# EAGLE library part ADG787BRMZ (library impedance)
2:1 Mux/Demux USB 1.1 Switch
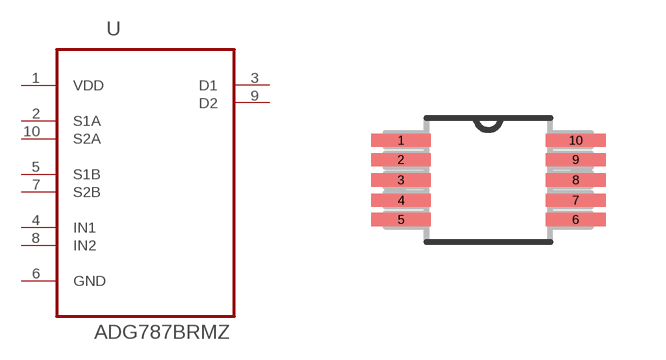
[diagram p3: symbol with the pads of SOP50P490X110-10N; footprint SOP50P490X110-10N]

Designator prefix U

## ADG787BRMZ (MPN: ADG787BRMZ; OC_FARNELL: 1117867; OC_NEWARK: 19M0695; PACKAGE: MSOP-10; SUPPLIER: Analog Devices)  [SOP50P490X110-10N]
1  VDD  pwr
2  S1A
3  D1
4  IN1  in
5  S1B
6  GND  pas
7  S2B
8  IN2  in
9  D2
10  S2A

## Footprint SOP50P490X110-10N (pad centres in mm)
smd 1.499 x 0.33: 1 -2.184,0.991; 2 -2.184,0.508; 3 -2.184,0; 4 -2.184,-0.508; 5 -2.184,-0.991; 6 2.184,-0.991; 7 2.184,-0.508; 8 2.184,0; 9 2.184,0.508; 10 2.184,0.991